# Altium footprint library ESP-12F.PcbLib: 1 footprints
Each footprint in its own frame and in the unit in brackets; x right, y up, seen from the top. Pads: shape width x height; smd on the part's side, far side on the other; paste and mask are expansions set on the pad; w line width, h text height; cw(c..) or ccw(c..) is an arc to the next point about the centre after c.
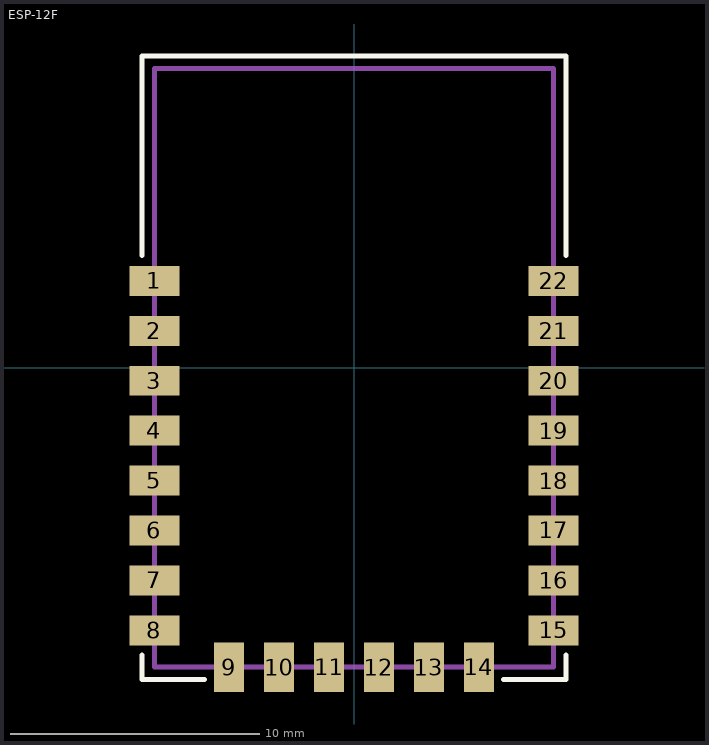
[diagram p0: the footprint, top view; thin cyan lines are the x and y axes]

## ESP-12F [mm]
pads (22):
  rect 2x1.2 smd: 1(-8,3.48) 2(-8,1.48) 3(-8,-0.52) 4(-8,-2.52) 5(-8,-4.52) 6(-8,-6.52) 7(-8,-8.52) 8(-8,-10.52) 15(8,-10.52) 16(8,-8.52) 17(8,-6.52) 18(8,-4.52) 19(8,-2.52) 20(8,-0.52) 21(8,1.48) 22(8,3.48)
  rect 1.2x2 smd: 9(-5,-12) 10(-3,-12) 11(-1,-12) 12(1,-12) 13(3,-12) 14(5,-12)
Top Overlay:
  lines w0.2: -8.5,-11.5 -8.5,-12.5 -6,-12.5 ; -8.5,4.5 -8.5,12.5 8.5,12.5 8.5,4.5 ; 6,-12.5 8.5,-12.5 8.5,-11.5
Mechanical 13:
  lines w0.2: -8,-12 -8,12 8,12 8,-12 -8,-12
3D body "ESP-12F--3DModel-STEP-269445.STEP": height 3.1, standoff 0, extent -8.763,-12.954 8.937,11.946